# EAGLE library part 530481010 (library 530481010)
1.25mm Pitch, PicoBlade PCB Header, Single Row, Right-Angle, Through Hole, Tin (Sn) Plating, Friction Lock, 10 Circuits, Tray, 2.30mm PC Tail Length Source: Datasheet <https://www.molex.com/pdm_docs/sd/530480210_sd.pdf>
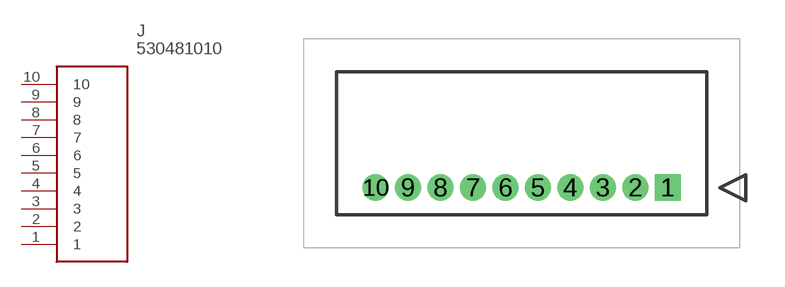
[diagram p0: symbol with the pads of 530481010; footprint 530481010]

Designator prefix J

## 530481010 (Description: 1.25mm Pitch, PicoBlade PCB Header, Single Row, Right-Angle, Through Hole, Tin (Sn) Plating, Friction Lock, 10 Circuits, Tray, 2.30mm PC Tail Length; Height: 3.5mm; Manufacturer_Name: Molex; Manufacturer_Part_Number: 530481010)  [530481010]
1  1
2  2
3  3
4  4
5  5
6  6
7  7
8  8
9  9
10  10

## Footprint 530481010 (pad centres in mm)
530481010
drill 0.5 pad 0.85 square: 1 0,0
drill 0.5 pad 0.85: 2 -1.25,0; 3 -2.5,0; 4 -3.75,0; 5 -5,0; 6 -6.25,0; 7 -7.5,0; 8 -8.75,0; 9 -10,0; 10 -11.25,0